# Altium footprint library CAPAE9083X125M.PcbLib: 1 footprints
Each footprint in its own frame and in the unit in brackets; x right, y up, seen from the top. Pads: shape width x height; smd on the part's side, far side on the other; paste and mask are expansions set on the pad; w line width, h text height; cw(c..) or ccw(c..) is an arc to the next point about the centre after c.
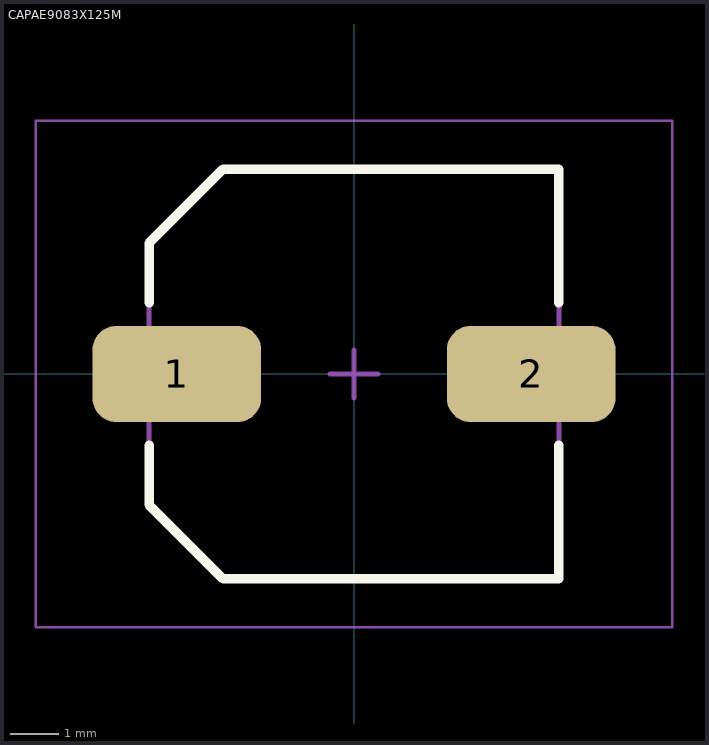
[diagram p0: the footprint, top view; thin cyan lines are the x and y axes]

## CAPAE9083X125M [mm] "Aluminum Electrolytic Capacitor, Body 8.30x8.30x12.50mm, IPC Low Density"
height 12.5
pads (2):
  rrect50% 3.5x2 smd: 1(-3.675,0) 2(3.675,0)
Top Overlay:
  lines w0.2: -4.25,-1.475 -4.25,-2.713 -2.712,-4.25 4.25,-4.25 4.25,-1.475 ; -4.25,1.475 -4.25,2.712 -2.712,4.25 4.25,4.25 4.25,1.475
Top Assembly:
  lines w0.1: -4.25,-2.713 -2.712,-4.25 4.25,-4.25 4.25,4.25 -2.712,4.25 -4.25,2.712 -4.25,-2.713
Top Courtyard:
  lines w0.05: -6.6,-5.25 -6.6,5.25 6.6,5.25 6.6,-5.25 -6.6,-5.25
  lines w0.1: -0.5,0 0.5,0 ; 0,-0.5 0,0.5
3D body "CAPAE9083X125M.step": height 12.5, standoff 0, extent -4.5,-4.25 4.5,4.25